# EAGLE library part AS-ITM-00064 (library tinycircuits)
IC ANALOG SWCH 10OHM DGS (S-PDSO-G10)
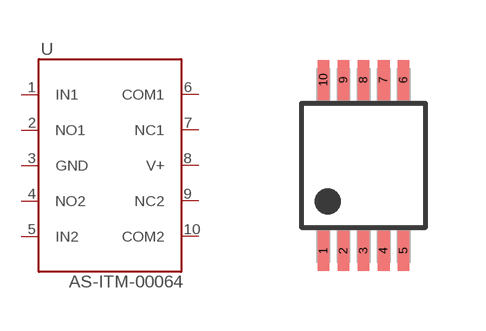
[diagram p20: symbol with the pads of DGS(S-PDSO-G10); footprint DGS(S-PDSO-G10)]

Designator prefix U

## AS-ITM-00064  [DGS(S-PDSO-G10)]
1  IN1
2  NO1
3  GND
4  NO2
5  IN2
6  COM1
7  NC1
8  V+
9  NC2
10  COM2

## Footprint DGS(S-PDSO-G10) (pad centres in mm)
smd 0.3 x 1: 1 -1,-2.14; 2 -0.5,-2.14; 3 0,-2.14; 4 0.5,-2.14; 5 1,-2.14; 6 1,2.14; 7 0.5,2.14; 8 0,2.14; 9 -0.5,2.14; 10 -1,2.14